# Altium footprint library Passive-Fuse.PcbLib: 11 footprints
Each footprint in its own frame and in the unit in brackets; x right, y up, seen from the top. Pads: shape width x height; smd on the part's side, far side on the other; paste and mask are expansions set on the pad; w line width, h text height; cw(c..) or ccw(c..) is an arc to the next point about the centre after c.
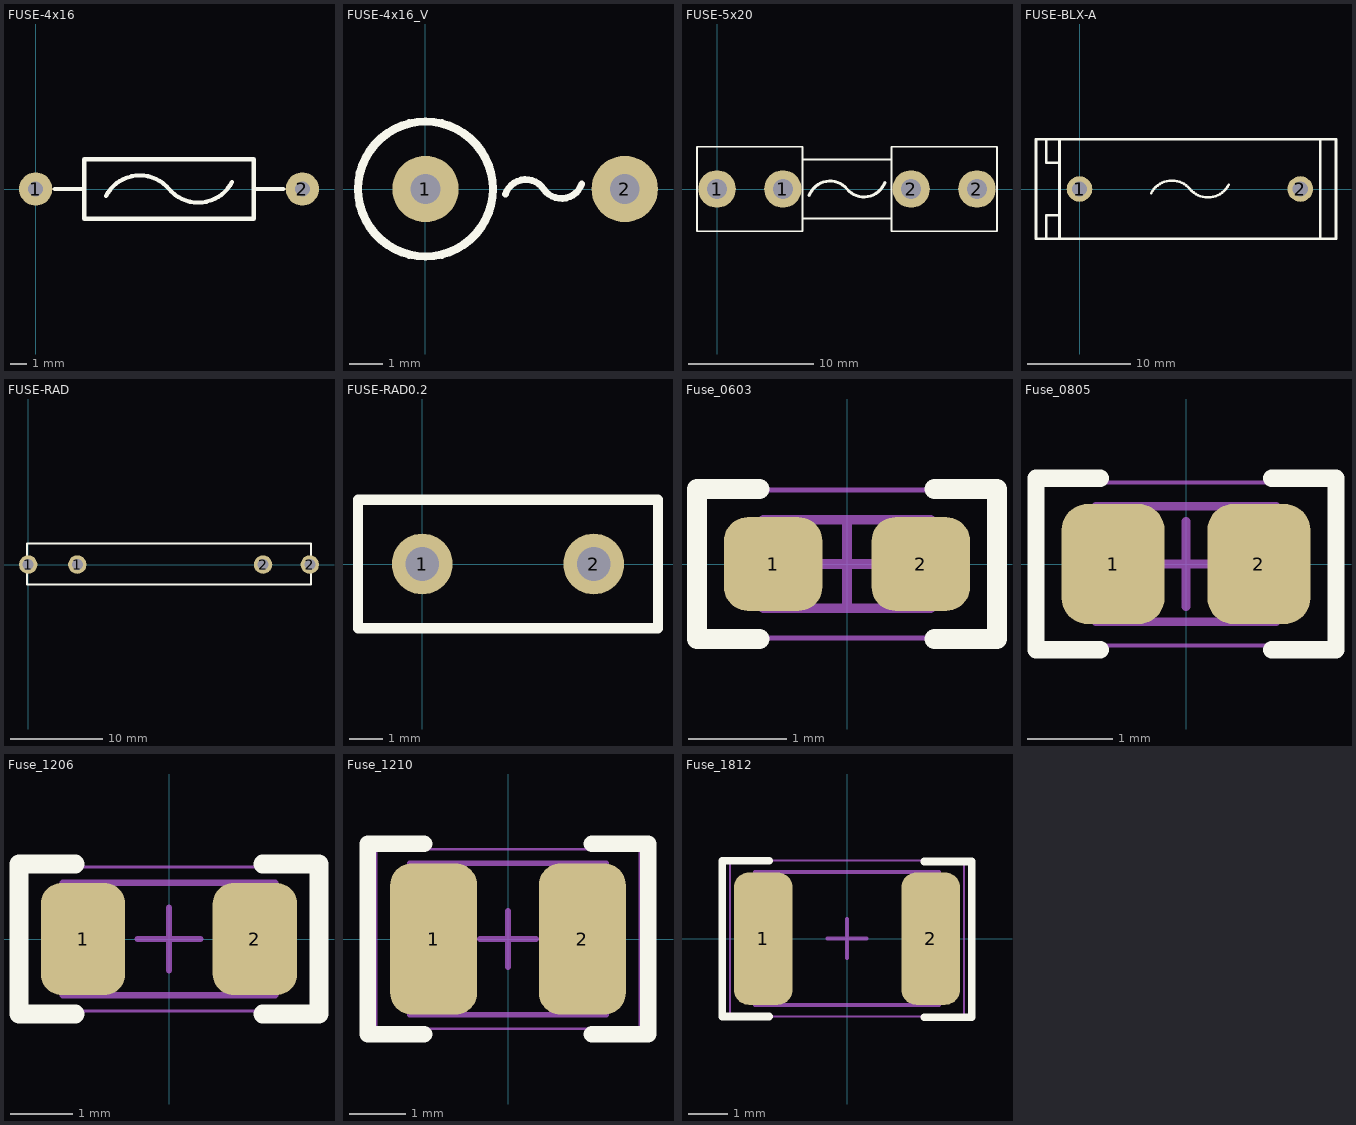
[diagram p0: the footprints below, top view; thin cyan lines are the x and y axes]

## FUSE-4x16 [mm]
pads (2):
  round 2 hole 0.9: 1(0,0) 2(16,0)
Top Overlay:
  lines w0.254: 1.142,0 2.92,0 ; 4.218,-0.419 cw(c6.249,-1.469) 8,0 ccw(c9.751,1.469) 11.782,0.419 ; 13.08,0 14.858,0 ; 2.92,-1.778 13.08,-1.778 13.08,1.778 2.92,1.778 2.92,-1.778
3D body "6.STEP": height 3.95, standoff -3.55, extent -0.426,-1.868 16.174,2.032

## FUSE-4x16_V [mm]
pads (2):
  round 2 hole 0.9: 1(0,0) 2(6,0)
Top Overlay:
  circle w0.254: c0,0 r2.032
  lines w0.203: 2.406,-0.156 cw(c3.019,-0.362) 3.556,0 ccw(c4.093,0.362) 4.706,0.156
3D body "m.STEP": height 13.1, standoff -3.5, extent -2.118,-2.032 6.182,1.968

## FUSE-5x20 [mm]
pads (4):
  round 3 hole 1.6: 1(0,0) 1(5.27,0) 2(15.53,0) 2(20.8,0)
Top Overlay:
  lines w0.15: 6.844,-2.35 13.956,-2.35 ; 6.844,2.35 13.956,2.35 ; -1.6,-3.38 6.844,-3.38 6.844,3.38 -1.6,3.38 -1.6,-3.38 ; 13.956,-3.38 22.4,-3.38 22.4,3.38 13.956,3.38 13.956,-3.38
  lines w0.254: 7.373,-0.52 cw(c9.038,-1.143) 10.4,0 ccw(c11.762,1.143) 13.427,0.52
3D body "n.STEP": height 9.77, standoff -3.6, extent -0.513,-3.175 21.087,3.125

## FUSE-BLX-A [mm]
pads (2):
  round 2.5 hole 1.5: 1(0,0) 2(21.5,0)
Top Overlay:
  lines w0.254: -1.95,-4.826 -1.95,-2.54 ; -1.95,4.826 -1.95,2.54 ; 6.968,-0.419 cw(c8.999,-1.469) 10.75,0 ccw(c12.501,1.469) 14.532,0.419 ; 23.196,-4.826 24.974,-4.826 24.974,4.826 23.45,4.826 ; -3.22,-4.826 -3.22,-2.54 -1.95,-2.54 ; -3.22,-4.826 23.45,-4.826 23.45,4.826 ; -3.22,-4.826 -4.236,-4.826 -4.236,4.826 -3.22,4.826 ; -3.22,4.826 -3.22,2.54 -1.95,2.54 ; -3.22,4.826 23.45,4.826 ; -1.95,-2.54 -1.95,2.54
3D body "3.STEP": height 13.9, standoff -3.6, extent -4.261,-4.801 25.089,4.699

## FUSE-RAD [mm]
pads (4):
  round 2 hole 1.2: 1(0,0) 1(5.334,0) 2(25.527,0) 2(30.607,0)
Top Overlay:
  lines w0.254: -0.127,-2.159 30.734,-2.159 30.734,2.286 -0.127,2.286 -0.127,-2.159
3D body "SW3DPS-FUSE-DEFAULT.STEP": height 8.84, standoff -4.01, extent -0.127,-2.825 30.753,3.079

## FUSE-RAD0.2 [mm]
pads (2):
  round 1.8 hole 1: 1(0,0) 2(5.08,0)
Top Overlay:
  lines w0.305: -1.905,-1.905 6.985,-1.905 6.985,1.905 -1.905,1.905 -1.905,-1.905
3D body "FUSE-FRU110-30F.STEP": height 11, standoff -7.22, extent -1.16,-0.85 6.24,0.85

## Fuse_0603 [mm]
height 0.8
pads (2):
  rrect50% 1x0.95 smd: 1(-0.75,0) 2(0.75,0)
Top Overlay:
  lines w0.2: -0.889,-0.762 -1.524,-0.762 -1.524,0.762 -0.889,0.762 ; 0.889,-0.762 1.524,-0.762 1.524,0.762 0.889,0.762
Top Value:
  text "'.Comment'" at -1.315,-0.27 h1
Top Designator:
  text "'.Designator'" at -3.426,-0.251 h1.2
Top Courtyard:
  lines w0.05: -1.5,-0.75 -1.5,0.75 1.5,0.75 1.5,-0.75 -1.5,-0.75
  lines w0.1: -0.45,0 0.45,0 ; 0,-0.45 0,0.45
Top Assembly (Mech20):
  lines w0.1: -0.85,-0.45 -0.85,0.45 0.85,0.45 0.85,-0.45 -0.85,-0.45
3D body "11.STEP": height 0.52, standoff 0, extent -0.8,-0.42 0.8,0.4

## Fuse_0805 [mm]
height 1.25
pads (2):
  rrect50% 1.2x1.4 smd: 1(-0.85,0) 2(0.85,0)
Top Overlay:
  lines w0.2: -1,-1 -1.75,-1 -1.75,1 -1,1 ; 1,-1 1.75,-1 1.75,1 1,1
Top Value:
  text "'.Comment'" at -1.842,-0.378 h1.4
Top Designator:
  text "'.Designator'" at -4.573,-0.334 h1.6
Top Courtyard:
  lines w0.05: -1.7,-0.95 -1.7,0.95 1.7,0.95 1.7,-0.95 -1.7,-0.95
  lines w0.1: -0.5,0 0.5,0 ; 0,-0.5 0,0.5
Top Assembly (Mech20):
  lines w0.1: -1.05,-0.675 -1.05,0.675 1.05,0.675 1.05,-0.675 -1.05,-0.675
3D body "10.STEP": height 0.52, standoff 0, extent -1.016,-0.61 0.984,0.61

## Fuse_1206 [mm]
height 1.25
pads (2):
  rrect50% 1.35x1.8 smd: 1(-1.375,0) 2(1.375,0)
Top Overlay:
  lines w0.3: -1.5,-1.2 -2.4,-1.2 -2.4,1.2 -1.5,1.2 ; 1.5,-1.2 2.4,-1.2 2.4,1.2 1.5,1.2
Top Value:
  text "'.Comment'" at -2.629,-0.539 h2
Top Designator:
  text "'.Designator'" at -6.286,-0.46 h2.2
Top Courtyard:
  lines w0.05: -2.3,-1.15 -2.3,1.15 2.3,1.15 2.3,-1.15 -2.3,-1.15
  lines w0.1: -0.5,0 0.5,0 ; 0,-0.5 0,0.5
Top Assembly (Mech20):
  lines w0.1: -1.7,-0.9 -1.7,0.9 1.7,0.9 1.7,-0.9 -1.7,-0.9
3D body "9.STEP": height 0.87, standoff 0, extent -1.663,-0.858 1.536,0.762

## Fuse_1210 [mm]
height 1.8
pads (2):
  rrect50% 1.55x2.7 smd: 1(-1.325,0) 2(1.325,0)
Top Overlay:
  lines w0.3: -1.5,-1.7 -2.5,-1.7 -2.5,1.7 -1.5,1.7 ; 1.5,-1.7 2.5,-1.7 2.5,1.7 1.5,1.7
Top Value:
  text "'.Comment'" at -2.629,-0.539 h2
Top Designator:
  text "'.Designator'" at -6.286,-0.46 h2.2
Top Courtyard:
  lines w0.05: -2.35,-1.6 -2.35,1.6 2.35,1.6 2.35,-1.6 -2.35,-1.6
  lines w0.1: -0.5,0 0.5,0 ; 0,-0.5 0,0.5
Top Assembly (Mech20):
  lines w0.1: -1.75,-1.35 -1.75,1.35 1.75,1.35 1.75,-1.35 -1.75,-1.35
3D body "Fuse1210.STEP": height 0.67, standoff 0, extent -1.607,-1.287 1.608,1.288

## Fuse_1812 [mm]
height 1.3
pads (2):
  rrect50% 1.5x3.4 smd: 1(-2.15,0) 2(2.15,0)
Top Overlay:
  lines w0.2: -2,-2 -3.2,-2 -3.2,2 -2,2 ; 1.981,-2.022 3.2,-2.022 3.2,1.978 1.981,1.978
Top Value:
  text "'.Comment'" at -2.629,-0.539 h2
Top Designator:
  text "'.Designator'" at -6.286,-0.46 h2.2
Top Courtyard:
  lines w0.05: -3,-2 3,-2 3,2 -3,2 -3,-2
  lines w0.1: -0.5,0 0.5,0 ; 0,-0.5 0,0.5
Top Assembly (Mech20):
  lines w0.1: -2.365,-1.705 2.365,-1.705 2.365,1.705 -2.365,1.705 -2.365,-1.705
3D body "Fuse_1812.stp": height 0.9, standoff 0, extent -2.275,-1.62 2.275,1.62